# EAGLE library part MAXIM_MAX6954_LED_DISPLAY_DRIVER (library 180118 Library by matsu)
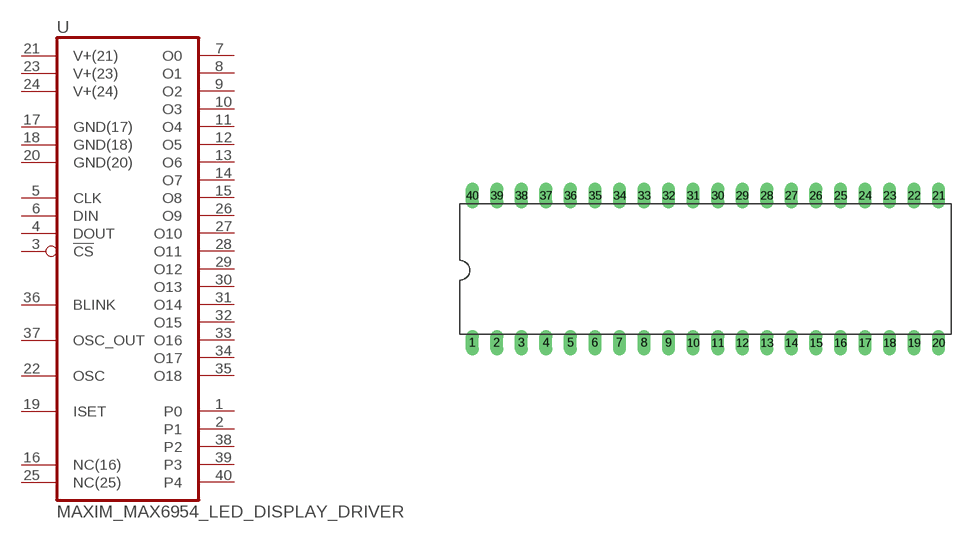
[diagram p37: symbol with the pads of DIL40; footprint DIL40]

Designator prefix -

## MAXIM_MAX6954_LED_DISPLAY_DRIVER  [DIL40]
1  P0
2  P1
3  !CS  in
4  DOUT  out
5  CLK  in
6  DIN  in
7  O0  out
8  O1  out
9  O2  out
10  O3  out
11  O4  out
12  O5  out
13  O6  out
14  O7  out
15  O8  out
16  NC(16)  nc
17  GND(17)  pwr
18  GND(18)  pwr
19  ISET
20  GND(20)  pwr
21  V+(21)  pwr
22  OSC
23  V+(23)  pwr
24  V+(24)  pwr
25  NC(25)  nc
26  O9  out
27  O10  out
28  O11  out
29  O12  out
30  O13  out
31  O14  out
32  O15  out
33  O16  out
34  O17  out
35  O18  out
36  BLINK  out
37  OSC_OUT  out
38  P2
39  P3
40  P4

## Footprint DIL40 (pad centres in mm)
Dual In Line Package
drill 0.813 long: 1 -24.13,-7.62; 2 -21.59,-7.62; 3 -19.05,-7.62; 4 -16.51,-7.62; 5 -13.97,-7.62; 6 -11.43,-7.62; 7 -8.89,-7.62; 8 -6.35,-7.62; 9 -3.81,-7.62; 10 -1.27,-7.62; 11 1.27,-7.62; 12 3.81,-7.62; 13 6.35,-7.62; 14 8.89,-7.62; 15 11.43,-7.62; 16 13.97,-7.62; 17 16.51,-7.62; 18 19.05,-7.62; 19 21.59,-7.62; 20 24.13,-7.62; 21 24.13,7.62; 22 21.59,7.62; 23 19.05,7.62; 24 16.51,7.62; 25 13.97,7.62; 26 11.43,7.62; 27 8.89,7.62; 28 6.35,7.62; 29 3.81,7.62; 30 1.27,7.62; 31 -1.27,7.62; 32 -3.81,7.62; 33 -6.35,7.62; 34 -8.89,7.62; 35 -11.43,7.62; 36 -13.97,7.62; 37 -16.51,7.62; 38 -19.05,7.62; 39 -21.59,7.62; 40 -24.13,7.62